# Altium schematic symbol library UKU205.SCHLIB: 44 symbols
Pins are listed as number, name and electrical type; pins without a type are passive.

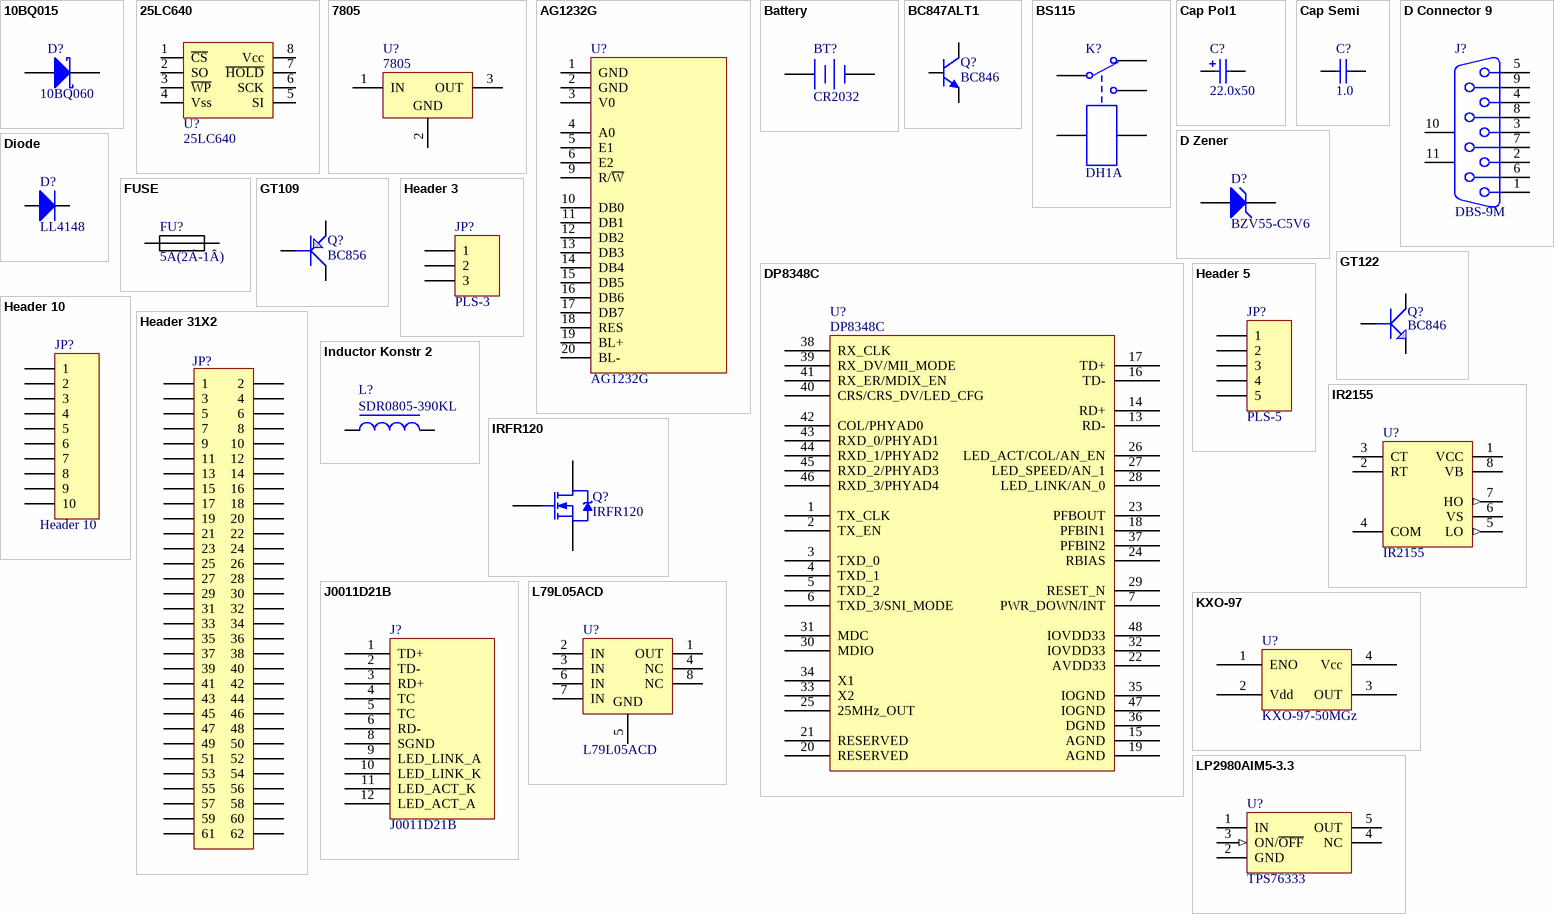
[diagram p0: symbols 10BQ015 to LP2980AIM5-3.3]

## 10BQ015
designator D?, comment 10BQ060
Schottky Rectifier; Manufacturer: International Rectifier; Revision 1: 10-July-2000: SIM Model Added.; Revision 2: July-2002: Re-released for DXP Platform.; Class I: Discrete; Class II: Rectifier - Schottky; Published: 8-Jun-2000; Datasheet: Latest Revision: PD-2.396A; Package Reference: DO-214AA; Publisher: Altium Limited
footprint DSO-C2/X2.3
simulation model 10BQ015 (DIODE)
signal-integrity model 10BQ015
pins: 1 A, 2 K

## 25LC640
designator U?
footprint SO-G8/D5
pins: 1 ~{CS}, 2 SO, 3 ~{WP}, 4 Vss, 5 SI, 6 SCK, 7 ~{HOLD}, 8 Vcc

## 7805
designator U?
3-Terminal Positive Fixed Voltage Regulator; Manufacturer: Motorola; Class I: Power Management; Note: Pin 2 is electrically connected to TAB; Published: 15-Apr-2002; Datasheet: Linear and Interface Integrated Circuits, DL128 Rev2 (1988); Package Reference: 221A-04; Publisher: Altium Limited; Class II: Voltage Regulator
footprint 7805_1
pins: 1 IN (power), 2 GND (power), 3 OUT (power)

## AG1232G
designator U?
footprint AG1232G
pins: 1 GND, 2 GND, 3 V0, 4 A0, 5 E1, 6 E2, 9 R/~{W}, 10 DB0, 11 DB1, 12 DB2, 13 DB3, 14 DB4, 15 DB5, 16 DB6, 17 DB7, 18 RES, 19 BL+, 20 BL-

## Battery
designator BT?, comment CR2032
Multicell Battery; Manufacturer: Generic Components; Published: 24-Mar-1999; Revision: July-2002: Re-released for DXP Platform.; Publisher: Altium Limited
footprint BAT_SUPP
pins: 1 +, 2 -

## BC847ALT1
designator Q?, comment BC846
General Purpose Transistor NPN Silicon; Manufacturer: Motorola; Package Information: Latest Revision: 1997; Class I: Discrete; Class II: BJT - Low Power; Published: 29-Sep-2000; Revision: July-2002: Re-released for DXP Platform.; Datasheet: Latest Revision: 1997; Package Reference: 318-08; Publisher: Altium Limited
footprint SO-G3
simulation model BC848ALT1 (NPN)
signal-integrity model BC848ALT1
pins: 1 B, 2 E, 3 C

## BS115
designator K?, comment DH1A
Single-Pole Dual-Throw Relay; Manufacturer: Generic Components; Class I: Electro-mechanical; Published: 24-Mar-1999; Revision: July-2002: Re-released for DXP Platform.; Publisher: Altium Limited; Class II: Relay
footprint kuan
pins: 1, 2, 3, 4, 5

## Cap Pol1
designator C?, comment 22.0x50
Polarized Capacitor (Radial); Manufacturer: Generic Components; Class I: Passive; Value: 22,0; Published: 8-Jun-2000; Revision: July-2002: Re-released for DXP Platform.; Publisher: Altium Limited; Class II: Capacitor
footprint el5
simulation model CAP (Capacitor)
signal-integrity model Cap Pol
footprint el3
pins: 1, 2

## Cap Semi
designator C?, comment 1.0
Capacitor (Semiconductor SIM Model); Manufacturer: Generic Components; Class I: Passive; Value: 0,1; Published: 8-Jun-2000; Revision: July-2002: Re-released for DXP Platform.; Publisher: Altium Limited; Class II: Capacitor
footprint C3216-1206
simulation model CAP (Semiconductor Capacitor)
signal-integrity model Cap Semi
pins: 1, 2

## D Connector 9
designator J?, comment DBS-9M
Receptacle Assembly, 9 Position, Right Angle; Manufacturer: Generic Components; Package Information: Latest Revision: O; Class I: Connector; Positions: 9; Published: 15-Jun-2001; Revision: July-2002: Re-released for DXP Platform.; Datasheet: (1-Sep-1999); Package Reference: 788750; Publisher: Altium Limited; Orientation: Right Angle; Gender: Receptacle
footprint DSUB_N9
signal-integrity model Connector
pins: 1, 2, 3, 4, 5, 6, 7, 8, 9, 10 MH1, 11 MH2

## D Zener
designator D?, comment BZV55-C5V6
Zener Diode; Manufacturer: Generic Components; Class I: Discrete; Class II: Diode - Zener; Published: 8-Jun-2000; Revision: July-2002: Re-released for DXP Platform.; Publisher: Altium Limited
footprint _1206d
simulation model ZENER (Diode)
signal-integrity model D Zener
pins: 1 A, 2 K

## Diode
designator D?, comment LL4148
Default Diode; Manufacturer: Generic Components; Class I: Discrete; Class II: Diode - Switching; Published: 8-Jun-2000; Revision: July-2002: Re-released for DXP Platform.; Publisher: Altium Limited
footprint _1206d
simulation model DIODE (Diode)
signal-integrity model Diode
footprint _1206
pins: 1 A, 2 K

## DP8348C
designator U?
footprint F-QFP7X7-G48/N
pins: 1 TX_CLK, 2 TX_EN, 3 TXD_0, 4 TXD_1, 5 TXD_2, 6 TXD_3/SNI_MODE, 7 PWR_DOWN/INT, 13 RD-, 14 RD+, 15 AGND, 16 TD-, 17 TD+, 18 PFBIN1, 19 AGND, 20 RESERVED, 21 RESERVED, 22 AVDD33, 23 PFBOUT, 24 RBIAS, 25 25MHz_OUT, 26 LED_ACT/COL/AN_EN, 27 LED_SPEED/AN_1, 28 LED_LINK/AN_0, 29 RESET_N, 30 MDIO, 31 MDC, 32 IOVDD33, 33 X2, 34 X1, 35 IOGND, 36 DGND, 37 PFBIN2, 38 RX_CLK, 39 RX_DV/MII_MODE, 40 CRS/CRS_DV/LED_CFG, 41 RX_ER/MDIX_EN, 42 COL/PHYAD0, 43 RXD_0/PHYAD1, 44 RXD_1/PHYAD2, 45 RXD_2/PHYAD3, 46 RXD_3/PHYAD4, 47 IOGND, 48 IOVDD33

## FUSE
designator FU?, comment 5A(2Á-1Â)
footprint FUSE2
pins: 1, 2

## GT109
designator Q?, comment BC856
Right: 20; Bottom: 20
footprint SO-G3 (Model Description)
pins: 1 B, 2 E, 3 C

## GT122
designator Q?, comment BC846
Right: 20; Bottom: 20
footprint SO-G3 (Model Description)
pins: 1 B, 2 E, 3 C

## Header 3
designator JP?, comment PLS-3
Header, 3-Pin; Manufacturer: Generic Components; Class I: Connector; Revision: July-2002: Re-released for DXP Platform.; Publisher: Altium Limited
footprint HDR1X3
signal-integrity model Connector
pins: 1, 2, 3

## Header 5
designator JP?, comment PLS-5
Header, 5-Pin; Manufacturer: Generic Components; Class I: Connector; Revision: July-2002: Re-released for DXP Platform.; Publisher: Altium Limited
footprint HDR1X5
signal-integrity model Connector
pins: 1, 2, 3, 4, 5

## Header 10
designator JP?
Header, 10-Pin; Manufacturer: Generic Components; Class I: Connector; Revision: July-2002: Re-released for DXP Platform.; Publisher: Altium Limited
footprint HDR2X5
signal-integrity model Connector
pins: 1, 2, 3, 4, 5, 6, 7, 8, 9, 10

## Header 31X2
designator JP?
Header, 30-Pin, Dual row; Manufacturer: Generic Components; Class I: Connector; Revision: July-2002: Re-released for DXP Platform.; Publisher: Altium Limited
footprint HDR2X30
signal-integrity model Connector
pins: 1, 2, 3, 4, 5, 6, 7, 8, 9, 10, 11, 12, 13, 14, 15, 16, 17, 18, 19, 20, 21, 22, 23, 24, 25, 26, 27, 28, 29, 30, 31, 32, 33, 34, 35, 36, 37, 38, 39, 40, 41, 42, 43, 44, 45, 46, 47, 48, 49, 50, 51, 52, 53, 54, 55, 56, 57, 58, 59, 60, 61, 62

## Inductor Konstr 2
designator L?, comment SDR0805-390KL
Magnetic-Core Inductor; Manufacturer: Generic Components; Class I: Passive; Published: 24-Mar-1999; Revision: July-2002: Re-released for DXP Platform.; Publisher: Altium Limited; Class II: Inductor
footprint L10x10
pins: 1, 2

## IR2155
designator U?
Self-Oscillating Half-Bridge Driver; Manufacturer: International Rectifier; Class I: Interface; Published: 8-Jun-2000; Revision: July-2002: Re-released for DXP Platform.; Datasheet: Latest Revision: PD60029I; Package Reference: PDIP8; Publisher: Altium Limited; Class II: Bridge Driver
footprint DIP-8/D11
pins: 1 VCC (power), 2 RT, 3 CT, 4 COM (power), 5 LO (out), 6 VS (power), 7 HO (out), 8 VB (power)

## IRFR120
designator Q?
HEXFET N-Channel Power MOSFET; Manufacturer: International Rectifier; Revision 1: 10-July-2000: SIM Model Added.; Revision 2: July-2002: Re-released for DXP Platform.; Class I: Discrete; Class II: MOSFET - Power; Note: Pin 2 is trimmed and is electrically connected to Drain.; Published: 8-Jun-2000; Datasheet: Latest Revision: PD-9.523D; Package Reference: TO-252AA; Publisher: Altium Limited
footprint SIP-G3/E8
simulation model IRFR120 (SUBCKT)
pins: 1 G, 3 S, 4 D

## J0011D21B
designator J?
footprint J0011D21B
pins: 1 TD+, 2 TD-, 3 RD+, 4 TC, 5 TC, 6 RD-, 8 SGND, 9 LED_LINK_A, 10 LED_LINK_K, 11 LED_ACT_K, 12 LED_ACT_A

## KXO-97
designator U?, comment KXO-97-50MGz
footprint KXO-97
pins: 1 ENO, 2 Vdd, 3 OUT, 4 Vcc

## L79L05ACD
designator U?
Negative Voltage Regulator; Manufacturer: ST-Microelectronics; Package Information: Latest Revision: Jul-1998; Class I: Power Management; Published: 24-Aug-2001; Revision: July-2002: Re-released for DXP Platform.; Datasheet: Latest Revision: Apr-1999; Package Reference: SO8; Publisher: Altium Limited; Class II: Voltage Regulator
footprint SO-G8
pins: 1 OUT (power), 2 IN (power), 3 IN (power), 4 NC, 5 GND (power), 6 IN (power), 7 IN (power), 8 NC

## LP2980AIM5-3.3
designator U?, comment TPS76333
Micropower SOT, 50 mA Ultra Low-Dropout Regulator; Manufacturer: National Semiconductor; Package Information: Latest Revision: Aug-1999; Class I: Power Management; Class II: Voltage Regulator; Published: 15-Apr-2002; Datasheet: Latest Revision: Oct-1999; Package Reference: MA05B; Publisher: Altium Limited
footprint SO-G5/P.95
pins: 1 IN (power), 2 GND (power), 3 ON/~{OFF} (in), 4 NC, 5 OUT (power)

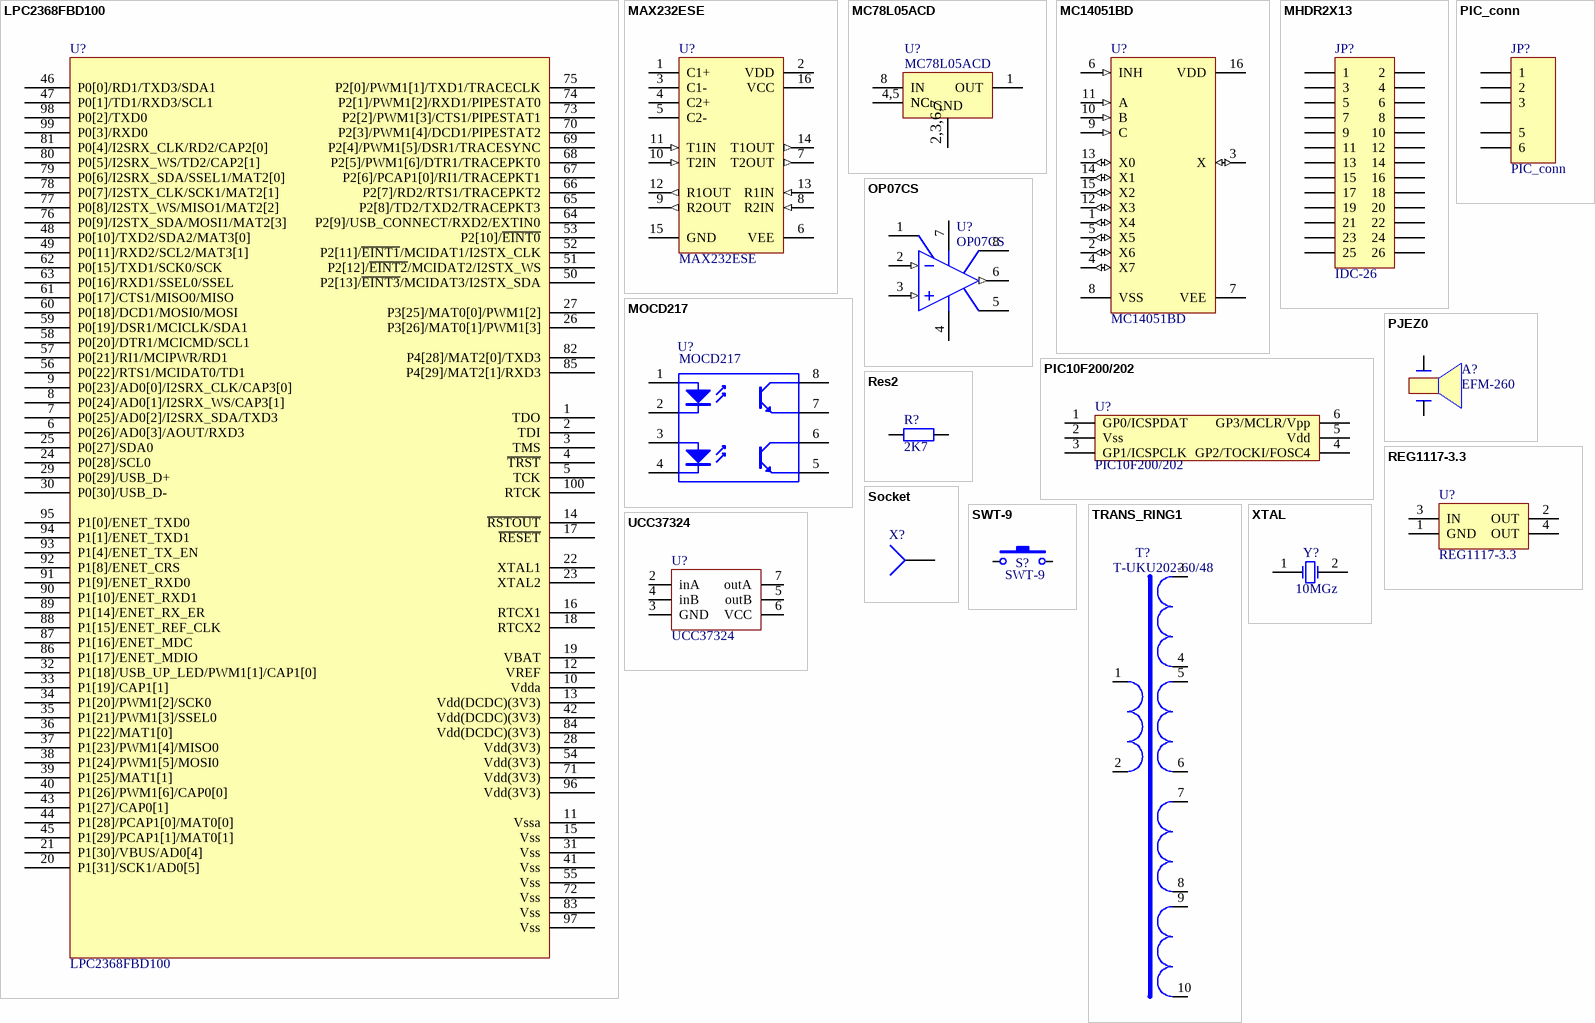
[diagram p1: symbols LPC2368FBD100 to XTAL]

## LPC2368FBD100
designator U?
footprint LPC2368 (Footprint not found)
pins: 1 TDO, 2 TDI, 3 TMS, 4 ~{TRST}, 5 TCK, 6 P0[26]/AD0[3]/AOUT/RXD3, 7 P0[25]/AD0[2]/I2SRX_SDA/TXD3, 8 P0[24]/AD0[1]/I2SRX_WS/CAP3[1], 9 P0[23]/AD0[0]/I2SRX_CLK/CAP3[0], 10 Vdda, 11 Vssa, 12 VREF, 13 Vdd(DCDC)(3V3), 14 ~{RSTOUT}, 15 Vss, 16 RTCX1, 17 ~{RESET}, 18 RTCX2, 19 VBAT, 20 P1[31]/SCK1/AD0[5], 21 P1[30]/VBUS/AD0[4], 22 XTAL1, 23 XTAL2, 24 P0[28]/SCL0, 25 P0[27]/SDA0, 26 P3[26]/MAT0[1]/PWM1[3], 27 P3[25]/MAT0[0]/PWM1[2], 28 Vdd(3V3), 29 P0[29]/USB_D+, 30 P0[30]/USB_D-, 31 Vss, 32 P1[18]/USB_UP_LED/PWM1[1]/CAP1[0], 33 P1[19]/CAP1[1], 34 P1[20]/PWM1[2]/SCK0, 35 P1[21]/PWM1[3]/SSEL0, 36 P1[22]/MAT1[0], 37 P1[23]/PWM1[4]/MISO0, 38 P1[24]/PWM1[5]/MOSI0, 39 P1[25]/MAT1[1], 40 P1[26]/PWM1[6]/CAP0[0], 41 Vss, 42 Vdd(DCDC)(3V3), 43 P1[27]/CAP0[1], 44 P1[28]/PCAP1[0]/MAT0[0], 45 P1[29]/PCAP1[1]/MAT0[1], 46 P0[0]/RD1/TXD3/SDA1, 47 P0[1]/TD1/RXD3/SCL1, 48 P0[10]/TXD2/SDA2/MAT3[0], 49 P0[11]/RXD2/SCL2/MAT3[1], 50 P2[13]/~{EINT3}/MCIDAT3/I2STX_SDA, 51 P2[12]/~{EINT2}/MCIDAT2/I2STX_WS, 52 P2[11]/~{EINT1}/MCIDAT1/I2STX_CLK, 53 P2[10]/~{EINT0}, 54 Vdd(3V3), 55 Vss, 56 P0[22]/RTS1/MCIDAT0/TD1, 57 P0[21]/RI1/MCIPWR/RD1, 58 P0[20]/DTR1/MCICMD/SCL1, 59 P0[19]/DSR1/MCICLK/SDA1, 60 P0[18]/DCD1/MOSI0/MOSI, 61 P0[17]/CTS1/MISO0/MISO, 62 P0[15]/TXD1/SCK0/SCK, 63 P0[16]/RXD1/SSEL0/SSEL, 64 P2[9]/USB_CONNECT/RXD2/EXTIN0, 65 P2[8]/TD2/TXD2/TRACEPKT3, 66 P2[7]/RD2/RTS1/TRACEPKT2, 67 P2[6]/PCAP1[0]/RI1/TRACEPKT1, 68 P2[5]/PWM1[6]/DTR1/TRACEPKT0, 69 P2[4]/PWM1[5]/DSR1/TRACESYNC, 70 P2[3]/PWM1[4]/DCD1/PIPESTAT2, 71 Vdd(3V3), 72 Vss, 73 P2[2]/PWM1[3]/CTS1/PIPESTAT1, 74 P2[1]/PWM1[2]/RXD1/PIPESTAT0, 75 P2[0]/PWM1[1]/TXD1/TRACECLK, 76 P0[9]/I2STX_SDA/MOSI1/MAT2[3], 77 P0[8]/I2STX_WS/MISO1/MAT2[2], 78 P0[7]/I2STX_CLK/SCK1/MAT2[1], 79 P0[6]/I2SRX_SDA/SSEL1/MAT2[0], 80 P0[5]/I2SRX_WS/TD2/CAP2[1], 81 P0[4]/I2SRX_CLK/RD2/CAP2[0], 82 P4[28]/MAT2[0]/TXD3, 83 Vss, 84 Vdd(DCDC)(3V3), 85 P4[29]/MAT2[1]/RXD3, 86 P1[17]/ENET_MDIO, 87 P1[16]/ENET_MDC, 88 P1[15]/ENET_REF_CLK, 89 P1[14]/ENET_RX_ER, 90 P1[10]/ENET_RXD1, 91 P1[9]/ENET_RXD0, 92 P1[8]/ENET_CRS, 93 P1[4]/ENET_TX_EN, 94 P1[1]/ENET_TXD1, 95 P1[0]/ENET_TXD0, 96 Vdd(3V3), 97 Vss, 98 P0[2]/TXD0, 99 P0[3]/RXD0, 100 RTCK

## MAX232ESE
designator U?
+5V Powered, Multi-Channel RS-232 Driver/Receiver; Manufacturer: Maxim; Class I: Communication; Class II: Transceiver; Published: 16-Jan-2001; Revision: July-2002: Re-released for DXP Platform.; Package Reference: NSO16; Publisher: Altium Limited
footprint SO-G16
pins: 1 C1+, 2 VDD (power), 3 C1-, 4 C2+, 5 C2-, 6 VEE (power), 7 T2OUT (out), 8 R2IN (in), 9 R2OUT (out), 10 T2IN (in), 11 T1IN (in), 12 R1OUT (out), 13 R1IN (in), 14 T1OUT (out), 15 GND (power), 16 VCC (power)

## MC78L05ACD
designator U?
3-Terminal Low-Current Positive Fixed Voltage Regulator; Manufacturer: Motorola; Class I: Power Management; Published: 15-Apr-2002; Datasheet: Linear and Interface Integrated Circuits, DL128 Rev2 (1988); Package Reference: 751-02; Publisher: Altium Limited; Class II: Voltage Regulator
footprint SO-G8
pins: 1 OUT (power), 2 GND (power), 3 GND (power), 4 NC, 5 NC, 6 GND (power), 7 GND (power), 8 IN (power)
text: 4,5; 2,3,6,7

## MC14051BD
designator U?
8-Channel Analog Multiplexer/Demultiplexer; Manufacturer: ON Semiconductor; Class I: Logic; Class II: Multiplexer/Encoder/Selector; Published: 15-Apr-2002; Package Reference: 751B-05; Publisher: Altium Limited
footprint SO-G16/C5.85
pins: 1 X4 (io), 2 X6 (io), 3 X (io), 4 X7 (io), 5 X5 (io), 6 INH (in), 7 VEE (power), 8 VSS (power), 9 C (in), 10 B (in), 11 A (in), 12 X3 (io), 13 X0 (io), 14 X1 (io), 15 X2 (io), 16 VDD (power)

## MHDR2X13
designator JP?, comment IDC-26
Header, 13-Pin, Dual row; Manufacturer: Generic Components; Class I: Connector; Revision: July-2002: Re-released for DXP Platform.; Publisher: Altium Limited
footprint SCM-26
signal-integrity model Connector
pins: 1, 2, 3, 4, 5, 6, 7, 8, 9, 10, 11, 12, 13, 14, 15, 16, 17, 18, 19, 20, 21, 22, 23, 24, 25, 26

## MOCD217
designator U?
footprint SO-G8
pins: 1 A, 2 K, 3 A, 4 K, 5 E, 6 C, 7 E, 8 C

## OP07CS
designator U?
Ultra-Low Offset Voltage Operational Amplifier; Manufacturer: Analog Devices; Note: Pin 5 is not connected.; Published: 8-Jun-2000; Revision: July-2002: Re-released for DXP Platform.; Datasheet: Designer's Reference Manual CD (1992); Package Reference: SO-8B; Publisher: Altium Limited; Class I: Amplifier; Class II: Operational Amplifier
footprint SO-G8
pins: 1 VOSTRIM, 2 IN- (in), 3 IN+ (in), 4 V- (power), 5 NC, 6 OUT (out), 7 V+ (power), 8 VOSTRIM

## PIC10F200/202
designator U?
footprint SOT23 - 6
pins: 1 GP0/ICSPDAT, 2 Vss, 3 GP1/ICSPCLK, 4 GP2/TOCKI/FOSC4, 5 Vdd, 6 GP3/MCLR/Vpp

## PIC_conn
designator JP?
Header, 7-Pin; Manufacturer: Generic Components; Class I: Connector; Revision: July-2002: Re-released for DXP Platform.; Publisher: Altium Limited
footprint PIC_CONN
pins: 1, 2, 3, 5, 6

## PJEZ0
designator A?, comment EFM-260
footprint Pjezo15
pins: 1, 2

## REG1117-3.3
designator U?
800mA and 1A Low Dropout Positive Regulator 2.85V, 3.3V, 5V, and Adjustable; Manufacturer: Burr-Brown; Package Information: Latest Revision: Rev. C; Class I: Power Management; Class II: Voltage Regulator; Published: 8-Jun-2000; Revision: July-2002: Re-released for DXP Platform.; Datasheet: Latest Revision: Sep-1997; Package Reference: ZZ311; Publisher: Altium Limited
footprint SIP-G3/C7.4
pins: 1 GND (power), 2 OUT (power), 3 IN (power), 4 OUT (power)

## Res2
designator R?, comment 2K7
Resistor; Manufacturer: Generic Components; Class I: Passive; Rule: Undefined; Published: 8-Jun-2000; Revision: July-2002: Re-released for DXP Platform.; Publisher: Altium Limited; Class II: Resistor; Value: 2K7
footprint CC3216-1206
simulation model RESISTOR (Resistor)
signal-integrity model Res2
footprint _1206
pins: 1, 2

## Socket
designator X?
Socket; Manufacturer: Generic Components; Class I: Connector; Revision: July-2002: Re-released for DXP Platform.; Publisher: Altium Limited
footprint PIN1
signal-integrity model Connector
pins: 1

## SWT-9
designator S?
Switch; Manufacturer: Generic Components; Published: 24-Mar-1999; Revision: July-2002: Re-released for DXP Platform.; Publisher: Altium Limited
footprint SWT-9
pins: 1, 2

## TRANS_RING1
designator T?, comment T-UKU202-60/48
footprint trans_ring1
pins: 1 Vss, 2 Vss, 3 Vss, 4 Vss, 5 Vss, 6 Vss, 7 Vss, 8 Vss, 9 Vss, 10 Vss

## UCC37324
designator U?
footprint SO-G8
pins: 2 inA, 3 GND, 4 inB, 5 outB, 6 VCC, 7 outA

## XTAL
designator Y?, comment 10MGz
Crystal Oscillator; Manufacturer: Generic Components; Published: 8-Jun-2000; Revision: July-2002: Re-released for DXP Platform.; Publisher: Altium Limited; Class I: Oscillator; Class II: Crystal Oscillator
footprint BCY-W2/D3.1
simulation model XTAL (Spice Subcircuit)
footprint QWARZ1
pins: 1 OSC1, 2 OSC2